# EAGLE library part 00SPEEDY_EP10_SMD_8PIN (library Wurth Electronics Midcom Inc V1-0)
Package Style: Speedy EP10 Mounting: SMD Pins: 8 pins Bobbin: 070-2720 Best pinouts for production vary per application. Please contact Wurth Electronics Midcom, Inc. for assistance with your custom design. Website: Wurth Electronics Midcom <http://www.we-online.com/midcom> Contact us Wurth Electronics Midcom, Inc. 121 Airport Dr. Watertown, SD 57201 Phone: (605) 886-4385 Fax: (605) 886-4486 E-Mail: midcom@we-online.com
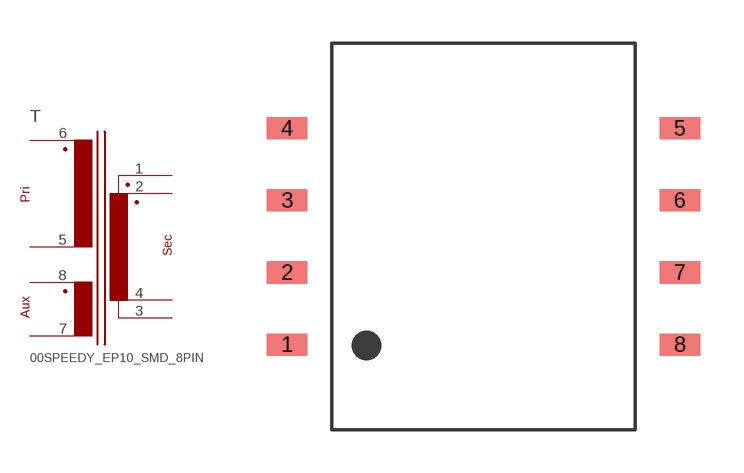
[diagram p117: symbol with the pads of 00SPEEDY_EP10_SMD_8PIN; footprint 00SPEEDY_EP10_SMD_8PIN]

Designator prefix T

## 00SPEEDY_EP10_SMD_8PIN  [00SPEEDY_EP10_SMD_8PIN]
1  5  pas
2  7  pas
3  6  pas
4  8  pas
5  2  pas
6  1  pas
7  4  pas
8  3  pas

## Footprint 00SPEEDY_EP10_SMD_8PIN (pad centres in mm)
Package Style: Speedy EP10 Mounting: SMD Pins: 8 pins Bobbin: 070-2720
smd 1.397 x 0.762: 1 -6.782,-3.734; 2 -6.782,-1.245; 3 -6.782,1.245; 4 -6.782,3.734; 5 6.782,3.734; 6 6.782,1.245; 7 6.782,-1.245; 8 6.782,-3.734